# Altium schematic symbol library CR0805-JW-473ELF.SchLib: 1 symbol
Pins are listed as number, name and electrical type; pins without a type are passive.

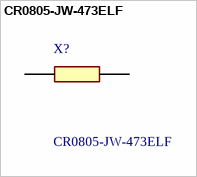
[diagram p0: symbol CR0805-JW-473ELF]

## CR0805-JW-473ELF
designator X?
Bourns CR0805 Series Thick Film Surface Mount Resistor 0805 Case 47k 0.125W +/-200ppm/C; Geometry.Height: 0.6mm; Mouser Part Number: 652-CR0805JW-473ELF; Mouser Price/Stock: https://www.mouser.co.uk/ProductDetail/Bourns/CR0805-JW-473ELF?qs=%252BcBkmVQIZ2S5L%2FTv0l5Nkg%3D%3D; Manufacturer_Name: Bourns; Manufacturer_Part_Number: CR0805-JW-473ELF; Datasheet Link: https://www.bourns.com/pdfs/chpreztr.pdf
footprint RESC2012X60N
pins: 1, 2